# EAGLE library part TLE8102SG (library infineon)
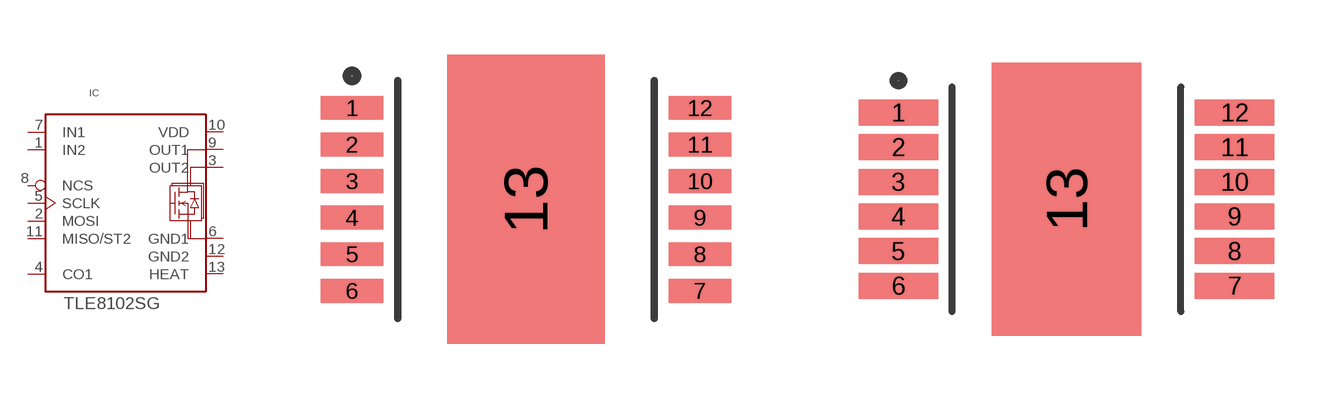
[diagram p1: symbol with the pads of INF-PG-DSO-12-11_L_1PRIMARY; footprints INF-PG-DSO-12-11_L_1PRIMARY, INF-PG-DSO-12-11_M_1PRIMARY]

Designator prefix IC

## TLE8102SGL  [INF-PG-DSO-12-11_L_1PRIMARY]
1  IN2
2  MOSI
3  OUT2
4  CO1
5  SCLK
6  GND1
7  IN1
8  NCS
9  OUT1
10  VDD
11  MISO/ST2
12  GND2
13  HEAT

## TLE8102SGM  [INF-PG-DSO-12-11_M_1PRIMARY]
Pads as for INF-PG-DSO-12-11_L_1PRIMARY

## TLE8102SGN  [INF-PG-DSO-12-11_N_1PRIMARY]
Pads as for INF-PG-DSO-12-11_L_1PRIMARY

## Footprint INF-PG-DSO-12-11_L_1PRIMARY (pad centres in mm)
Original name INF-PG-DSO-12-11_L
smd 1.7 x 0.65: 1 -4.75,2.5; 2 -4.75,1.5; 3 -4.75,0.5; 4 -4.75,-0.5; 5 -4.75,-1.5; 6 -4.75,-2.5; 7 4.75,-2.5; 8 4.75,-1.5; 9 4.75,-0.5; 10 4.75,0.5; 11 4.75,1.5; 12 4.75,2.5
smd 4.3 x 7.9: 13 0,0

## Footprint INF-PG-DSO-12-11_M_1PRIMARY (pad centres in mm)
Original name INF-PG-DSO-12-11_M
smd 2.3 x 0.75: 1 -4.85,2.5; 2 -4.85,1.5; 3 -4.85,0.5; 4 -4.85,-0.5; 5 -4.85,-1.5; 6 -4.85,-2.5; 7 4.85,-2.5; 8 4.85,-1.5; 9 4.85,-0.5; 10 4.85,0.5; 11 4.85,1.5; 12 4.85,2.5
smd 4.3 x 7.9: 13 0,0

## Footprint INF-PG-DSO-12-11_N_1PRIMARY (pad centres in mm)
Original name INF-PG-DSO-12-11_N
smd 2 x 0.65: 1 -4.8,2.5; 2 -4.8,1.5; 3 -4.8,0.5; 4 -4.8,-0.5; 5 -4.8,-1.5; 6 -4.8,-2.5; 7 4.8,-2.5; 8 4.8,-1.5; 9 4.8,-0.5; 10 4.8,0.5; 11 4.8,1.5; 12 4.8,2.5
smd 4.3 x 7.9: 13 0,0